# EAGLE library part GBA-AGB-U5 (library arcadetv)
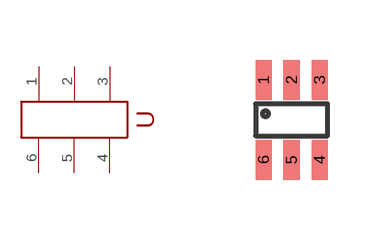
[diagram p22: symbol with the pads of GBA-AGB-U5; footprint GBA-AGB-U5]

Designator prefix -

## GBA-AGB-U5  [GBA-AGB-U5]
1  P$1
2  P$2
3  P$3
4  P$4
5  P$5
6  P$6

## Footprint GBA-AGB-U5 (pad centres in mm)
smd 0.4 x 1: 1 -0.7,1; 2 0,1; 3 0.7,1; 4 0.7,-1; 5 0,-1; 6 -0.7,-1